# Altium schematic symbol library SCH - POWER - SWITCHMODE - TI TPS61027DRC.SchLib: 1 symbol
Pins are listed as number, name and electrical type; pins without a type are passive.

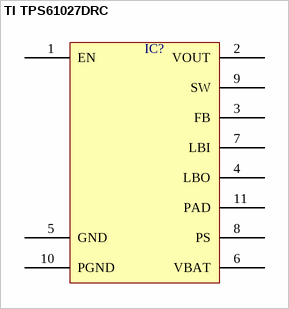
[diagram p0: symbol TI TPS61027DRC]

## TI TPS61027DRC
designator IC?  (value not drawn)
pins: 1 EN, 2 VOUT, 3 FB, 4 LBO, 5 GND, 6 VBAT, 7 LBI, 8 PS, 9 SW, 10 PGND, 11 PAD